# EAGLE library part CON_1X8_1.27MM (library comp_RFSwitch_v3)
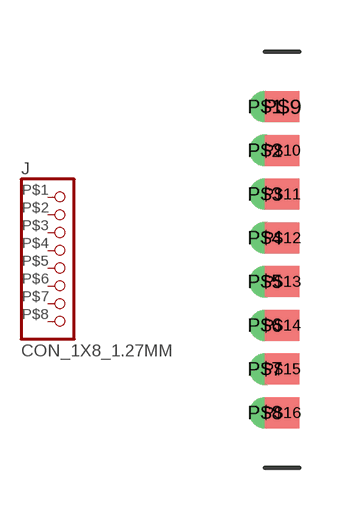
[diagram p3: symbol with the pads of CON_1X8PIN_1.27MM; footprint CON_1X8PIN_1.27MM]

Designator prefix J

## CON_1X8_1.27MM  [CON_1X8PIN_1.27MM]
P$1  1  pas
P$2  2  pas
P$3  3  pas
P$4  4  pas
P$5  5  pas
P$6  6  pas
P$7  7  pas
P$8  8  pas

## Footprint CON_1X8PIN_1.27MM (pad centres in mm)
drill 0.4: P$1 0,0; P$2 0,-1.27; P$3 0,-2.54; P$4 0,-3.81; P$5 0,-5.08; P$6 0,-6.35; P$7 0,-7.62; P$8 0,-8.89
smd 1 x 0.9: P$9 0.5,0; P$10 0.5,-1.27; P$11 0.5,-2.54; P$12 0.5,-3.81; P$13 0.5,-5.08; P$14 0.5,-6.35; P$15 0.5,-7.62; P$16 0.5,-8.89